# EAGLE library part USBC (library Connectors)
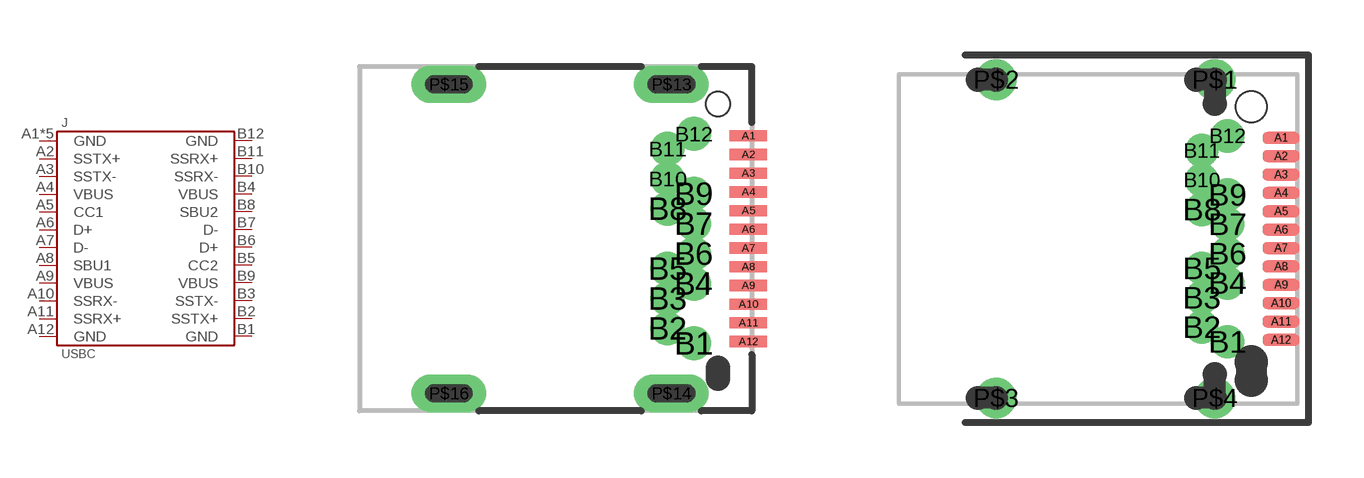
[diagram p21: symbol with the pads of USB-C-PTH; footprints USB-C-PTH, USB-C-PTH-2]

Designator prefix J

## USBC-PTH  [USB-C-PTH]
A1  GND
A2  SSTX+
A3  SSTX-
A4  VBUS
A5  CC1
A6  D+
A7  D-
A8  SBU1
A9  VBUS
A10  SSRX-
A11  SSRX+
A12  GND
B1  GND
B2  SSTX+
B3  SSTX-
B4  VBUS
B5  CC2
B6  D+
B7  D-
B8  SBU2
B9  VBUS
B10  SSRX-
B11  SSRX+
B12  GND
P$13  GND
P$14  GND
P$15  GND
P$16  GND

## USBC-PTH-2  [USB-C-PTH-2]
A1  GND
A2  SSTX+
A3  SSTX-
A4  VBUS
A5  CC1
A6  D+
A7  D-
A8  SBU1
A9  VBUS
A10  SSRX-
A11  SSRX+
A12  GND
B1  GND
B2  SSTX+
B3  SSTX-
B4  VBUS
B5  CC2
B6  D+
B7  D-
B8  SBU2
B9  VBUS
B10  SSRX-
B11  SSRX+
B12  GND
P$1  GND
P$2  GND
P$3  GND
P$4  GND

## Footprint USB-C-PTH (pad centres in mm)
smd 1 x 0.3: A1 0.81,2.75; A2 0.81,2.25; A3 0.81,1.75; A4 0.81,1.25; A5 0.81,0.75; A6 0.81,0.25; A7 0.81,-0.25; A8 0.81,-0.75; A9 0.81,-1.25; A10 0.81,-1.75; A11 0.81,-2.25; A12 0.81,-2.75
drill 0.4 pad 0.65: B1 -0.65,-2.8; B2 -1.35,-2.4; B3 -1.35,-1.6; B4 -0.65,-1.2; B5 -1.35,-0.8; B6 -0.65,-0.4; B7 -0.65,0.4; B8 -1.35,0.8; B9 -0.65,1.2; B10 -1.35,1.6; B11 -1.35,2.4; B12 -0.65,2.8
drill 0.5 pad 0.8 long: P$13 -1.25,4.13; P$14 -1.25,-4.13; P$15 -7.2,4.13; P$16 -7.2,-4.13
hole 0.65 at 0,3.6

## Footprint USB-C-PTH-2 (pad centres in mm)
smd 1 x 0.32: A1 10.41,2.75; A2 10.41,2.25; A3 10.41,1.75; A4 10.41,1.25; A5 10.41,0.75; A6 10.41,0.25; A7 10.41,-0.25; A8 10.41,-0.75; A9 10.41,-1.25; A10 10.41,-1.75; A11 10.41,-2.25; A12 10.41,-2.75
drill 0.4 pad 0.6: B1 8.95,-2.8; B2 8.25,-2.4; B3 8.25,-1.6; B4 8.95,-1.2; B5 8.25,-0.8; B6 8.95,-0.4; B7 8.95,0.4; B8 8.25,0.8; B9 8.95,1.2; B10 8.25,1.6; B11 8.25,2.4; B12 8.95,2.8
drill 0.6 pad 0.9: P$1 8.6,4.33; P$2 2.65,4.33; P$3 2.65,-4.33; P$4 8.6,-4.33
hole 0.6 at 8.6,3.68
hole 0.6 at 8.1,4.33
hole 0.6 at 8.6,-3.68
hole 0.6 at 8.1,-4.33
hole 0.85 at 9.6,3.6
hole 0.85 at 9.6,-3.35
hole 0.85 at 9.6,-3.85
hole 0.6 at 2.15,4.33
hole 0.6 at 2.15,-4.33
hole 0.6 at 2.65,4.33
hole 0.6 at 2.65,-4.33
hole 0.6 at 8.6,-4.33
hole 0.6 at 8.6,4.33